# EAGLE library part LPC1227/6/5/4_QFP64 (library microbuilder)
LPC1227/6/5/4 - 32-bit ARM Cortex-M0 microcontroller - LQFP64 Package Low-Power ARM Cortex-M0 up to 33MHz Up to 8KB SRAM / 128KB Flash Digital Peripherals: Micro DMA Controller, CRC Engine, 2xUART, SSP/SPI, I2C, 2x 32-bit Timers, 2x16-bit Timers Analog Periherals: 8-Channel 10-bit ADC, 2 Analog Comparators
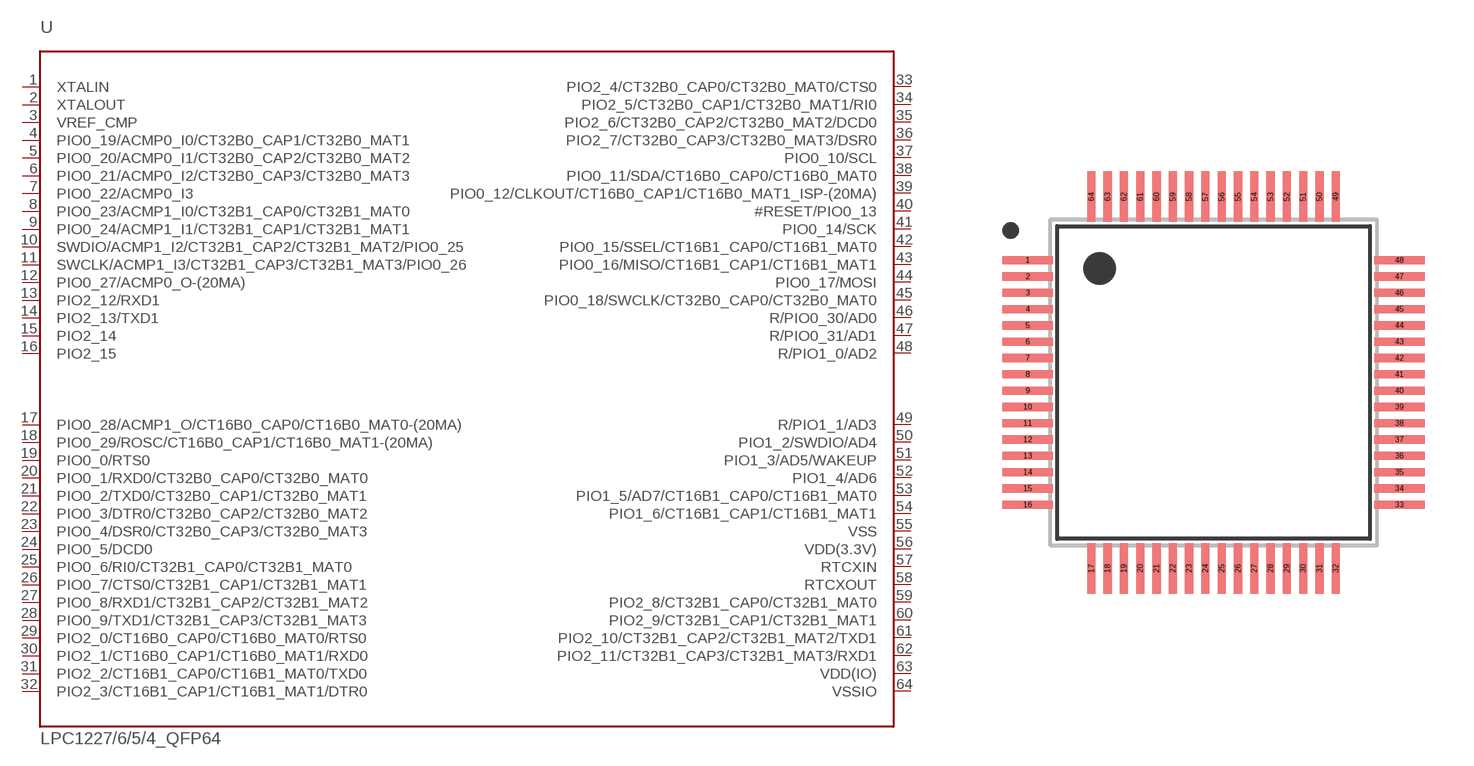
[diagram p88: symbol with the pads of LQFP64; footprint LQFP64]

Designator prefix U

## LPC1227/6/5/4_QFP64  [LQFP64]
1  XTALIN
2  XTALOUT
3  VREF_CMP
4  PIO0_19/ACMP0_I0/CT32B0_CAP1/CT32B0_MAT1
5  PIO0_20/ACMP0_I1/CT32B0_CAP2/CT32B0_MAT2
6  PIO0_21/ACMP0_I2/CT32B0_CAP3/CT32B0_MAT3
7  PIO0_22/ACMP0_I3
8  PIO0_23/ACMP1_I0/CT32B1_CAP0/CT32B1_MAT0
9  PIO0_24/ACMP1_I1/CT32B1_CAP1/CT32B1_MAT1
10  SWDIO/ACMP1_I2/CT32B1_CAP2/CT32B1_MAT2/PIO0_25
11  SWCLK/ACMP1_I3/CT32B1_CAP3/CT32B1_MAT3/PIO0_26
12  PIO0_27/ACMP0_O-(20MA)
13  PIO2_12/RXD1
14  PIO2_13/TXD1
15  PIO2_14
16  PIO2_15
17  PIO0_28/ACMP1_O/CT16B0_CAP0/CT16B0_MAT0-(20MA)
18  PIO0_29/ROSC/CT16B0_CAP1/CT16B0_MAT1-(20MA)
19  PIO0_0/RTS0
20  PIO0_1/RXD0/CT32B0_CAP0/CT32B0_MAT0
21  PIO0_2/TXD0/CT32B0_CAP1/CT32B0_MAT1
22  PIO0_3/DTR0/CT32B0_CAP2/CT32B0_MAT2
23  PIO0_4/DSR0/CT32B0_CAP3/CT32B0_MAT3
24  PIO0_5/DCD0
25  PIO0_6/RI0/CT32B1_CAP0/CT32B1_MAT0
26  PIO0_7/CTS0/CT32B1_CAP1/CT32B1_MAT1
27  PIO0_8/RXD1/CT32B1_CAP2/CT32B1_MAT2
28  PIO0_9/TXD1/CT32B1_CAP3/CT32B1_MAT3
29  PIO2_0/CT16B0_CAP0/CT16B0_MAT0/RTS0
30  PIO2_1/CT16B0_CAP1/CT16B0_MAT1/RXD0
31  PIO2_2/CT16B1_CAP0/CT16B1_MAT0/TXD0
32  PIO2_3/CT16B1_CAP1/CT16B1_MAT1/DTR0
33  PIO2_4/CT32B0_CAP0/CT32B0_MAT0/CTS0
34  PIO2_5/CT32B0_CAP1/CT32B0_MAT1/RI0
35  PIO2_6/CT32B0_CAP2/CT32B0_MAT2/DCD0
36  PIO2_7/CT32B0_CAP3/CT32B0_MAT3/DSR0
37  PIO0_10/SCL
38  PIO0_11/SDA/CT16B0_CAP0/CT16B0_MAT0
39  PIO0_12/CLKOUT/CT16B0_CAP1/CT16B0_MAT1_ISP-(20MA)
40  #RESET/PIO0_13
41  PIO0_14/SCK
42  PIO0_15/SSEL/CT16B1_CAP0/CT16B1_MAT0
43  PIO0_16/MISO/CT16B1_CAP1/CT16B1_MAT1
44  PIO0_17/MOSI
45  PIO0_18/SWCLK/CT32B0_CAP0/CT32B0_MAT0
46  R/PIO0_30/AD0
47  R/PIO0_31/AD1
48  R/PIO1_0/AD2
49  R/PIO1_1/AD3
50  PIO1_2/SWDIO/AD4
51  PIO1_3/AD5/WAKEUP
52  PIO1_4/AD6
53  PIO1_5/AD7/CT16B1_CAP0/CT16B1_MAT0
54  PIO1_6/CT16B1_CAP1/CT16B1_MAT1
55  VSS
56  VDD(3.3V)
57  RTCXIN
58  RTCXOUT
59  PIO2_8/CT32B1_CAP0/CT32B1_MAT0
60  PIO2_9/CT32B1_CAP1/CT32B1_MAT1
61  PIO2_10/CT32B1_CAP2/CT32B1_MAT2/TXD1
62  PIO2_11/CT32B1_CAP3/CT32B1_MAT3/RXD1
63  VDD(IO)
64  VSSIO

## Footprint LQFP64 (pad centres in mm)
smd 1.55 x 0.25: 1 -5.7,3.75; 2 -5.7,3.25; 3 -5.7,2.75; 4 -5.7,2.25; 5 -5.7,1.75; 6 -5.7,1.25; 7 -5.7,0.75; 8 -5.7,0.25; 9 -5.7,-0.25; 10 -5.7,-0.75; 11 -5.7,-1.25; 12 -5.7,-1.75; 13 -5.7,-2.25; 14 -5.7,-2.75; 15 -5.7,-3.25; 16 -5.7,-3.75; 33 5.7,-3.75; 34 5.7,-3.25; 35 5.7,-2.75; 36 5.7,-2.25; 37 5.7,-1.75; 38 5.7,-1.25; 39 5.7,-0.75; 40 5.7,-0.25; 41 5.7,0.25; 42 5.7,0.75; 43 5.7,1.25; 44 5.7,1.75; 45 5.7,2.25; 46 5.7,2.75; 47 5.7,3.25; 48 5.7,3.75
smd 0.25 x 1.55: 17 -3.75,-5.7; 18 -3.25,-5.7; 19 -2.75,-5.7; 20 -2.25,-5.7; 21 -1.75,-5.7; 22 -1.25,-5.7; 23 -0.75,-5.7; 24 -0.25,-5.7; 25 0.25,-5.7; 26 0.75,-5.7; 27 1.25,-5.7; 28 1.75,-5.7; 29 2.25,-5.7; 30 2.75,-5.7; 31 3.25,-5.7; 32 3.75,-5.7; 49 3.75,5.7; 50 3.25,5.7; 51 2.75,5.7; 52 2.25,5.7; 53 1.75,5.7; 54 1.25,5.7; 55 0.75,5.7; 56 0.25,5.7; 57 -0.25,5.7; 58 -0.75,5.7; 59 -1.25,5.7; 60 -1.75,5.7; 61 -2.25,5.7; 62 -2.75,5.7; 63 -3.25,5.7; 64 -3.75,5.7